# EAGLE library part HD63*09EC (library micro-hitachi-jlb)
Hitachi HD63C09 - Modified from Ed Snider's original (Zippster)
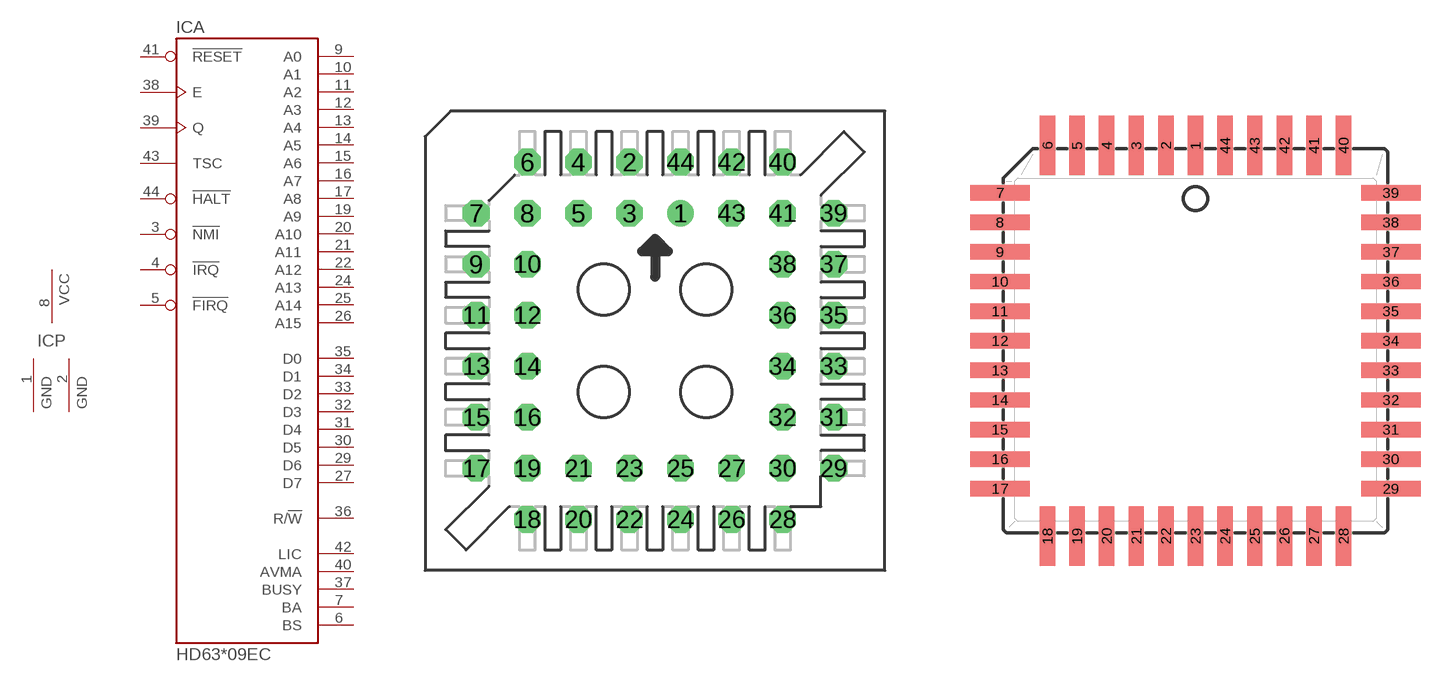
[diagram p0: symbol with the pads of PLCC44_TH; footprints PLCC44_TH, PLCC44-L]

Designator prefix IC; gates A=HD63C09E P=PWR-GND2

## HD63B09ECPT, HD63C09ECPT  [PLCC44_TH]
1  P:GND  pwr
2  P:GND  pwr
3  A:!NMI  oc
4  A:!IRQ  oc
5  A:!FIRQ  oc
6  A:BS  out
7  A:BA  out
8  P:VCC  pwr
9  A:A0  hiz
10  A:A1  hiz
11  A:A2  hiz
12  A:A3  hiz
13  A:A4  hiz
14  A:A5  hiz
15  A:A6  hiz
16  A:A7  hiz
17  A:A8  hiz
19  A:A9  hiz
20  A:A10  hiz
21  A:A11  hiz
22  A:A12  hiz
24  A:A13  hiz
25  A:A14  hiz
26  A:A15  hiz
27  A:D7
29  A:D6
30  A:D5
31  A:D4
32  A:D3
33  A:D2
34  A:D1
35  A:D0
36  A:R/!W  out
37  A:BUSY  out
38  A:E  in
39  A:Q  in
40  A:AVMA  out
41  A:!RESET  in
42  A:LIC  out
43  A:TSC  oc
44  A:!HALT  oc

## HD63B09ECP, HD63C09ECP  [PLCC44-L]
Pads as for PLCC44_TH

## HD63B09ECPS, HD63C09ECPS  [PLCC44]
Pads as for PLCC44_TH

## Footprint PLCC44_TH (pad centres in mm)
drill 0.813: 1 1.27,6.35
drill 0.813 octagon: 2 -1.27,8.89; 3 -1.27,6.35; 4 -3.81,8.89; 5 -3.81,6.35; 6 -6.35,8.89; 7 -8.89,6.35; 8 -6.35,6.35; 9 -8.89,3.81; 10 -6.35,3.81; 11 -8.89,1.27; 12 -6.35,1.27; 13 -8.89,-1.27; 14 -6.35,-1.27; 15 -8.89,-3.81; 16 -6.35,-3.81; 17 -8.89,-6.35; 18 -6.35,-8.89; 19 -6.35,-6.35; 20 -3.81,-8.89; 21 -3.81,-6.35; 22 -1.27,-8.89; 23 -1.27,-6.35; 24 1.27,-8.89; 25 1.27,-6.35; 26 3.81,-8.89; 27 3.81,-6.35; 28 6.35,-8.89; 29 8.89,-6.35; 30 6.35,-6.35; 31 8.89,-3.81; 32 6.35,-3.81; 33 8.89,-1.27; 34 6.35,-1.27; 35 8.89,1.27; 36 6.35,1.27; 37 8.89,3.81; 38 6.35,3.81; 39 8.89,6.35; 40 6.35,8.89; 41 6.35,6.35; 42 3.81,8.89; 43 3.81,6.35; 44 1.27,8.89

## Footprint PLCC44-L (pad centres in mm)
Plastic Leaded Carrier Package
smd 0.66 x 2.54: 1 0,8.382; 2 -1.27,8.382; 3 -2.54,8.382; 4 -3.81,8.382; 5 -5.08,8.382; 6 -6.35,8.382; 18 -6.35,-8.382; 19 -5.08,-8.382; 20 -3.81,-8.382; 21 -2.54,-8.382; 22 -1.27,-8.382; 23 0,-8.382; 24 1.27,-8.382; 25 2.54,-8.382; 26 3.81,-8.382; 27 5.08,-8.382; 28 6.35,-8.382; 40 6.35,8.382; 41 5.08,8.382; 42 3.81,8.382; 43 2.54,8.382; 44 1.27,8.382
smd 2.54 x 0.66: 7 -8.382,6.35; 8 -8.382,5.08; 9 -8.382,3.81; 10 -8.382,2.54; 11 -8.382,1.27; 12 -8.382,0; 13 -8.382,-1.27; 14 -8.382,-2.54; 15 -8.382,-3.81; 16 -8.382,-5.08; 17 -8.382,-6.35; 29 8.382,-6.35; 30 8.382,-5.08; 31 8.382,-3.81; 32 8.382,-2.54; 33 8.382,-1.27; 34 8.382,0; 35 8.382,1.27; 36 8.382,2.54; 37 8.382,3.81; 38 8.382,5.08; 39 8.382,6.35

## Footprint PLCC44 (pad centres in mm)
PLASTIC LEADED CHIP CARRIER square
smd 0.76 x 1.8: 1 0,7.86; 2 -1.27,7.86; 3 -2.54,7.86; 4 -3.81,7.86; 5 -5.08,7.86; 6 -6.35,7.86; 18 -6.35,-7.86; 19 -5.08,-7.86; 20 -3.81,-7.86; 21 -2.54,-7.86; 22 -1.27,-7.86; 23 0,-7.86; 24 1.27,-7.86; 25 2.54,-7.86; 26 3.81,-7.86; 27 5.08,-7.86; 28 6.35,-7.86; 40 6.35,7.86; 41 5.08,7.86; 42 3.81,7.86; 43 2.54,7.86; 44 1.27,7.86
smd 1.8 x 0.76: 7 -7.86,6.35; 8 -7.86,5.08; 9 -7.86,3.81; 10 -7.86,2.54; 11 -7.86,1.27; 12 -7.86,0; 13 -7.86,-1.27; 14 -7.86,-2.54; 15 -7.86,-3.81; 16 -7.86,-5.08; 17 -7.86,-6.35; 29 7.86,-6.35; 30 7.86,-5.08; 31 7.86,-3.81; 32 7.86,-2.54; 33 7.86,-1.27; 34 7.86,0; 35 7.86,1.27; 36 7.86,2.54; 37 7.86,3.81; 38 7.86,5.08; 39 7.86,6.35